# Altium schematic symbol library TPS62827DMQR.SchLib: 1 symbol
Pins are listed as number, name and electrical type; pins without a type are passive.

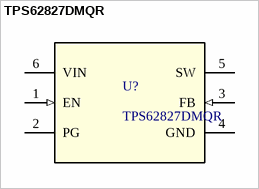
[diagram p0: symbol TPS62827DMQR]

## TPS62827DMQR
designator U?
2.5-V to 5.5-V input, 4-A step-down converter with 1% accuracy in 1.5-mm x 1.5-mm QFN 6-VSON-HR -40 to 125; Manufacturer_Name: Texas Instruments; TYPE: TYPE; RefDes: RefDes; Copyright: Copyright (C) 2025 Ultra Librarian. All rights reserved.; Manufacturer_Part_Number: TPS62827DMQR
footprint DMQ0006A
pins: 1 EN (in), 2 PG (oc), 3 FB (in), 4 GND (power), 5 SW (power), 6 VIN (power)